# EAGLE library part PL-RCP-00-S* (library picoLight)
picoLight parallel fiber optic module 12 channel receiver >Source: picoLight
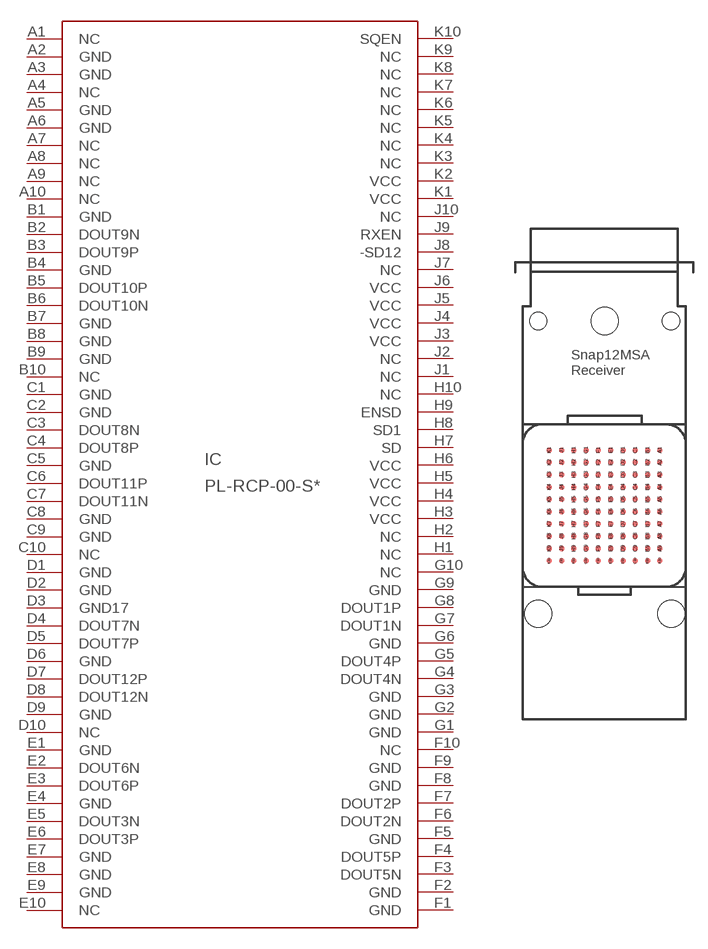
[diagram p1: symbol with the pads of SNAP12-RXM; footprint SNAP12-RXM]

Designator prefix IC

## PL-RCP-00-S53-0B, PL-RCP-00-S53-3A, PL-RCP-00-S63-0B, PL-RCP-00-S63-3B, PL-RCP-00-SD3-0A, PL-RCP-00-SD3-3A, PL-RCP-00-SE3-0A, PL-RCP-00-SE3-0B, PL-RCP-00-SE3-3A, PL-RCP-00-SE3-3B  [SNAP12-RXM]
A1  NC  nc
A2  GND  pwr
A3  GND  pwr
A4  NC  nc
A5  GND  pwr
A6  GND  pwr
A7  NC  nc
A8  NC  nc
A9  NC  nc
A10  NC  nc
B1  GND  pwr
B2  DOUT9N  out
B3  DOUT9P  out
B4  GND  pwr
B5  DOUT10P  out
B6  DOUT10N  out
B7  GND  pwr
B8  GND  pwr
B9  GND  pwr
B10  NC  nc
C1  GND  pwr
C2  GND  pwr
C3  DOUT8N  pwr
C4  DOUT8P  out
C5  GND  pwr
C6  DOUT11P  out
C7  DOUT11N  out
C8  GND  pwr
C9  GND  pwr
C10  NC  nc
D1  GND  pwr
D2  GND  pwr
D3  GND17  pwr
D4  DOUT7N  out
D5  DOUT7P  out
D6  GND  pwr
D7  DOUT12P  out
D8  DOUT12N  out
D9  GND  pwr
D10  NC  nc
E1  GND  pwr
E2  DOUT6N  out
E3  DOUT6P  out
E4  GND  pwr
E5  DOUT3N  out
E6  DOUT3P  out
E7  GND  pwr
E8  GND  pwr
E9  GND  pwr
E10  NC  nc
F1  GND  pwr
F2  GND  pwr
F3  DOUT5N  out
F4  DOUT5P  out
F5  GND  pwr
F6  DOUT2N  out
F7  DOUT2P  out
F8  GND  pwr
F9  GND  pwr
F10  NC  nc
G1  GND  pwr
G2  GND  pwr
G3  GND  pwr
G4  DOUT4N  out
G5  DOUT4P  out
G6  GND  pwr
G7  DOUT1N  out
G8  DOUT1P  out
G9  GND  pwr
G10  NC  nc
H1  NC  nc
H2  NC  nc
H3  VCC  pwr
H4  VCC  pwr
H5  VCC  pwr
H6  VCC  pwr
H7  SD  out
H8  SD1  out
H9  ENSD  in
H10  NC  nc
J1  NC  nc
J2  NC  nc
J3  VCC  pwr
J4  VCC  pwr
J5  VCC  pwr
J6  VCC  pwr
J7  NC  nc
J8  -SD12  in
J9  RXEN  in
J10  NC  nc
K1  VCC  pwr
K2  VCC  pwr
K3  NC  nc
K4  NC  nc
K5  NC  nc
K6  NC  nc
K7  NC  nc
K8  NC  nc
K9  NC  nc
K10  SQEN  in

## Footprint SNAP12-RXM (pad centres in mm)
snap12MSA Receiver module FCI 100-position Meg Array plug (FCI PN: 84512-101) Source: Snap12 MSA module standards rev1.1.
smd 0.58 x 0.58: A1 12.57,16.89; A2 12.57,15.62; A3 12.57,14.35; A4 12.57,13.08; A5 12.57,11.81; A6 12.57,10.54; A7 12.57,9.27; A8 12.57,8; A9 12.57,6.73; A10 12.57,5.46; B1 11.3,16.89; B2 11.3,15.62; B3 11.3,14.35; B4 11.3,13.08; B5 11.3,11.81; B6 11.3,10.54; B7 11.3,9.27; B8 11.3,8; B9 11.3,6.73; B10 11.3,5.46; C1 10.03,16.89; C2 10.03,15.62; C3 10.03,14.35; C4 10.03,13.08; C5 10.03,11.81; C6 10.03,10.54; C7 10.03,9.27; C8 10.03,8; C9 10.03,6.73; C10 10.03,5.46; D1 8.76,16.89; D2 8.76,15.62; D3 8.76,14.35; D4 8.76,13.08; D5 8.76,11.81; D6 8.76,10.54; D7 8.76,9.27; D8 8.76,8; D9 8.76,6.73; D10 8.76,5.46; E1 7.49,16.89; E2 7.49,15.62; E3 7.49,14.35; E4 7.49,13.08; E5 7.49,11.81; E6 7.49,10.54; E7 7.49,9.27; E8 7.49,8; E9 7.49,6.73; E10 7.49,5.46; F1 6.22,16.89; F2 6.22,15.62; F3 6.22,14.35; F4 6.22,13.08; F5 6.22,11.81; F6 6.22,10.54; F7 6.22,9.27; F8 6.22,8; F9 6.22,6.73; F10 6.22,5.46; G1 4.95,16.89; G2 4.95,15.62; G3 4.95,14.35; G4 4.95,13.08; G5 4.95,11.81; G6 4.95,10.54; G7 4.95,9.27; G8 4.95,8; G9 4.95,6.73; G10 4.95,5.46; H1 3.68,16.89; H2 3.68,15.62; H3 3.68,14.35; H4 3.68,13.08; H5 3.68,11.81; H6 3.68,10.54; H7 3.68,9.27; H8 3.68,8; H9 3.68,6.73; H10 3.68,5.46; J1 2.41,16.89; J2 2.41,15.62; J3 2.41,14.35; J4 2.41,13.08; J5 2.41,11.81; J6 2.41,10.54; J7 2.41,9.27; J8 2.41,8; J9 2.41,6.73; J10 2.41,5.46; K1 1.14,16.89; K2 1.14,15.62; K3 1.14,14.35; K4 1.14,13.08; K5 1.14,11.81; K6 1.14,10.54; K7 1.14,9.27; K8 1.14,8; K9 1.14,6.73; K10 1.14,5.46
hole 2.8 at 0,0
hole 2.8 at 13.72,0
hole 1.8 at 0,30.23
hole 1.8 at 13.72,30.23
hole 2.8 at 6.86,30.23